# Altium footprint library PcbLib1.PcbLib: 41 footprints (part 1 of 3)
Each footprint in its own frame and in the unit in brackets; x right, y up, seen from the top. Pads: shape width x height; smd on the part's side, far side on the other; paste and mask are expansions set on the pad; w line width, h text height; cw(c..) or ccw(c..) is an arc to the next point about the centre after c.
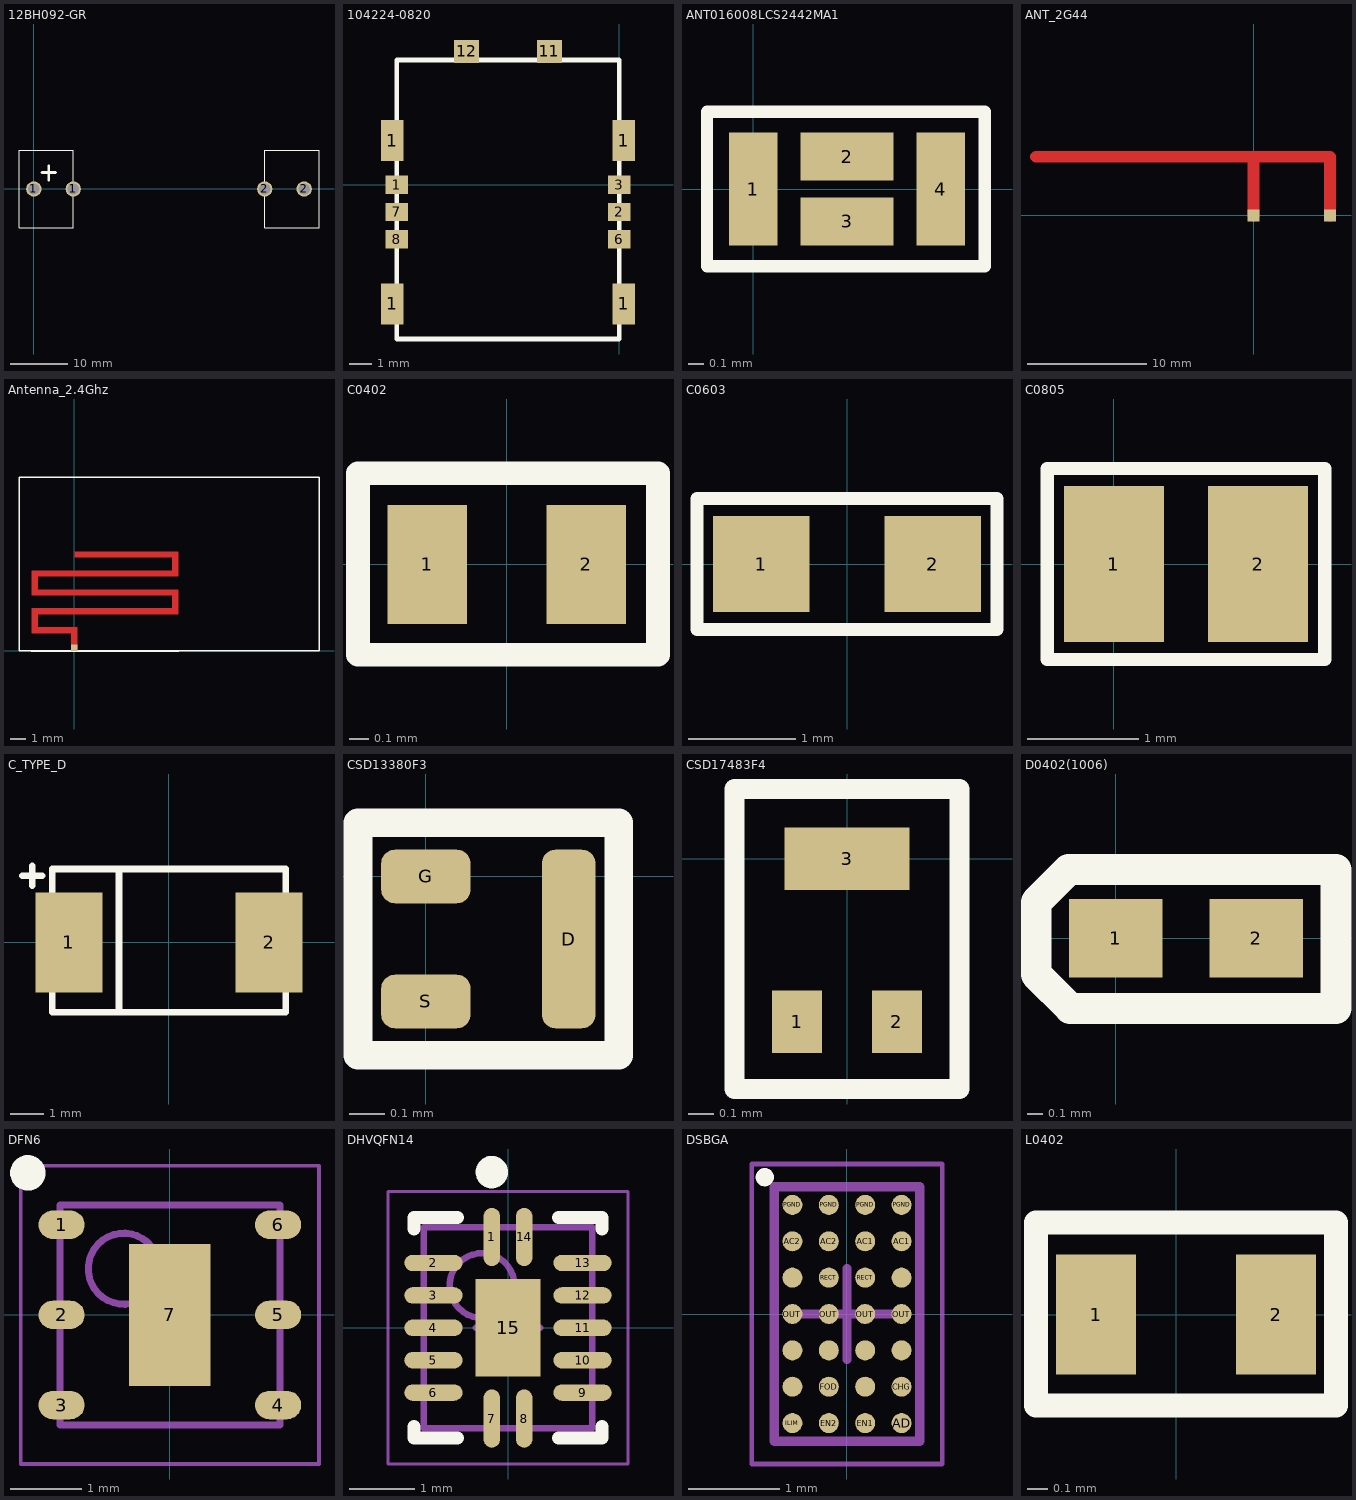
[diagram p0: the footprints below, top view; thin cyan lines are the x and y axes]

## 12BH092-GR [mm]
pads (4):
  round 2.7 hole 2: 1(0,0) 1(6.9,0) 2(40.4,0) 2(47.3,0)
Top Overlay:
  lines w0.2: -2.6,-6.8 6.9,-6.8 6.9,6.8 -2.6,6.8 -2.6,-6.8 ; 40.4,-6.8 40.4,6.8 49.9,6.8 49.9,-6.8 40.4,-6.8
  lines w0.5: 1.4,2.9 3.8,2.9 ; 2.6,1.6 2.6,4

## 104224-0820 [mm]
pads (12):
  rect 1x1.8 smd: 1(-10,-5.25) 1(-10,1.95) 1(0.2,-5.25) 1(0.2,1.95)
  rect 1x0.8 smd: 1(-9.8,0) 2(0,-1.2) 3(0,0) 6(0,-2.4) 7(-9.8,-1.2) 8(-9.8,-2.4)
  rect 1.1x1 smd: 11(-3.08,5.875) 12(-6.72,5.875)
Top Overlay:
  lines w0.2: -9.8,-6.8 -9.8,5.5 0,5.5 0,-6.8 -9.8,-6.8

## ANT016008LCS2442MA1 [mm]
pads (4):
  rect 0.315x0.73 smd: 1(0,0) 4(1.215,0)
  rect 0.6x0.31 smd: 2(0.607,0.21) 3(0.607,-0.21)
Top Overlay:
  lines w0.08: -0.3,-0.5 -0.3,0.5 1.5,0.5 1.5,-0.5 -0.3,-0.5

## ANT_2G44 [mm]
pads (2):
  rect 1x1 smd: ANT(0,0) GND(6.4,0)
Top Layer:
  lines w1: -18.2,4.9 0,4.9 ; 0,0 0,4.9 ; 6.4,0 6.4,4.9 0,4.9

## Antenna_2.4Ghz [mm]
pads (1):
  rect 0.4x0.4 smd: 1(0,0.2)
Top Layer:
  rectangle: -0.2,1.1 0.2,1.5
  rectangle: -2.7,1.1 -2.3,1.5
  rectangle: -2.7,2.3 -2.3,2.7
  rectangle: 6.2,2.3 6.6,2.7
  rectangle: 6.2,3.5 6.6,3.9
  rectangle: -2.7,3.5 -2.3,3.9
  rectangle: -2.7,4.7 -2.3,5.1
  rectangle: 6.2,4.7 6.6,5.1
  rectangle: 6.2,5.9 6.6,6.3
  rectangle: 0,5.9 0.4,6.3
  lines w0.4: 0,0.2 0,1.3 -2.5,1.3 -2.5,2.5 6.4,2.5 6.4,3.7 -2.5,3.7 -2.5,4.9 6.4,4.9 6.4,6.1 0.2,6.1
Top Overlay:
  lines w0.08: -2.7,0 -3.5,0 -3.5,11 15.5,11 15.5,0 6.6,0
  lines w0.12: -2.7,0 6.6,0

## C0402 [mm]
pads (2):
  rect 0.4x0.6 smd: 1(-0.4,0) 2(0.4,0)
Top Overlay:
  lines w0.12: -0.749,-0.454 0.76,-0.454 0.76,0.459 -0.749,0.459 -0.749,-0.454

## C0603 [mm]
pads (2):
  rect 0.9x0.9 smd: 1(-0.8,0) 2(0.8,0)
Top Overlay:
  lines w0.12: -1.4,-0.61 1.4,-0.61 1.4,0.61 -1.4,0.61 -1.4,-0.61

## C0805 [mm]
pads (2):
  rect 0.9x1.4 smd: 1(0,0) 2(1.3,0)
Top Overlay:
  lines w0.12: -0.6,-0.86 -0.6,0.86 1.9,0.86 1.9,-0.86 -0.6,-0.86

## C_TYPE_D [mm]
pads (2):
  rect 2x3 smd: 1(-3,0) 2(3,0)
Top Overlay:
  lines w0.2: -4.4,2 -3.8,2 ; -4.1,1.7 -4.1,2.3 ; -1.6,2.2 -1.5,2.2 -1.5,-2 ; -3.5,-2.1 3.5,-2.1 3.5,2.2 -3.5,2.2 -3.5,-2.1

## CSD13380F3 [mm]
pads (3):
  rrect50% 0.15x0.5 smd: D(0.4,-0.175)
  rrect50% 0.25x0.15 smd: G(0,0) S(0,-0.35)
Top Overlay:
  lines w0.08: -0.19,-0.5 0.54,-0.5 0.54,0.15 -0.19,0.15 -0.19,-0.5

## CSD17483F4 [mm]
pads (3):
  rect 0.2x0.25 smd: 1(-0.2,-0.65) 2(0.2,-0.65)
  rect 0.5x0.25 smd: 3(0,0)
Top Overlay:
  lines w0.08: -0.45,-0.92 0.45,-0.92 0.45,0.28 -0.45,0.28 -0.45,-0.92

## D0402(1006) [mm]
pads (2):
  rect 0.6x0.5 smd: 1(0,0) 2(0.9,0)
Top Overlay:
  lines w0.2: -0.51,-0.23 -0.51,0.23 -0.3,0.44 1.41,0.44 1.41,-0.45 -0.29,-0.45 -0.51,-0.23

## DFN6 [mm]
height 1
pads (7):
  oval 0.65x0.4 smd: 1(-1.525,1.27) 2(-1.525,0) 3(-1.525,-1.27) 4(1.525,-1.27) 5(1.525,0) 6(1.525,1.27)
  rect 1.15x2 smd: 7(0,0)
Top Overlay:
  circle w0.25: c-2,2 r0.125
Mechanical 13:
  circle w0.1: c-0.65,0.65 r0.5
  lines w0.1: -1.55,-1.55 -1.55,1.55 1.55,1.55 1.55,-1.55 -1.55,-1.55
Mechanical 15:
  lines w0.05: -2.1,-2.1 -2.1,2.1 2.1,2.1 2.1,-2.1 -2.1,-2.1
  lines w0.1: -0.5,0 0.5,0 ; 0,-0.5 0,0.5
3D body: height 1, standoff 0.05, extent -1.55,-1.55 1.55,1.55

## DHVQFN14 [mm] "QFN, 14-Leads, Body 2,50x3,00mm, Pitch 0,50mm, Thermal Pad 1,00x1,50mm, IPC Medium Density"
height 1
pads (15):
  oval 0.25x0.9 smd: 1(-0.25,1.4) 7(-0.25,-1.4) 8(0.25,-1.4) 14(0.25,1.4)
  oval 0.9x0.25 smd: 2(-1.15,1) 3(-1.15,0.5) 4(-1.15,0) 5(-1.15,-0.5) 6(-1.15,-1) 9(1.15,-1) 10(1.15,-0.5) 11(1.15,0) 12(1.15,0.5) 13(1.15,1)
  rect 1x1.5 smd: 15(0,0)
Top Overlay:
  circle w0.25: c-0.25,2.4 r0.125
  lines w0.2: -1.45,-1.525 -1.45,-1.7 -0.775,-1.7 ; -1.45,1.525 -1.45,1.7 -0.775,1.7 ; 0.775,-1.7 1.45,-1.7 1.45,-1.525 ; 0.775,1.7 1.45,1.7 1.45,1.525
Mechanical 13:
  circle w0.1: c-0.4,0.65 r0.5
  lines w0.1: -1.3,-1.55 1.3,-1.55 1.3,1.55 -1.3,1.55 -1.3,-1.55
Mechanical 15:
  lines w0.05: -1.85,-2.1 1.85,-2.1 1.85,2.1 -1.85,2.1 -1.85,-2.1
  lines w0.1: -0.5,0 0.5,0 ; 0,-0.5 0,0.5
3D body: height 1, standoff 0.05, extent -1.3,-1.55 1.3,1.55

## DSBGA [mm] "DSBGA"
height 0.19
pads (28):
  round 0.22 smd: AC1(0.2,0.8) AC1(0.6,0.8) AC2(-0.6,0.8) AC2(-0.2,0.8) AD(0.6,-1.2) AD-EN(0.2,-0.8) BOOT1(0.6,0.4) BOOT2(-0.6,0.4) CHG(0.6,-0.8) CLAMP1(0.2,-0.4) CLAMP2(-0.2,-0.4) COMM1(0.6,-0.4) COMM2(-0.6,-0.4) EN1(0.2,-1.2) EN2(-0.2,-1.2) FOD(-0.2,-0.8) ILIM(-0.6,-1.2) OUT(-0.6,0) OUT(-0.2,0) OUT(0.2,0) OUT(0.6,0) PGND(-0.6,1.2) PGND(-0.2,1.2) PGND(0.2,1.2) PGND(0.6,1.2) RECT(-0.2,0.4) RECT(0.2,0.4) TS-CTRL(-0.6,-0.8)
Top Overlay:
  circle w0.1: c-0.905,1.505 r0.05
Mechanical 13:
  lines w0.1: -0.8,-1.4 0.8,-1.4 0.8,1.4 -0.8,1.4 -0.8,-1.4
Mechanical 15:
  lines w0.05: -1.05,-1.65 1.05,-1.65 1.05,1.65 -1.05,1.65 -1.05,-1.65
  lines w0.1: -0.5,0 0.5,0 ; 0,-0.5 0,0.5
3D body: height 0.3, standoff 0.19, extent -0.8,-1.4 0.8,1.4

## L0402 [mm]
pads (2):
  rect 0.4x0.6 smd: 1(-0.4,0) 2(0.5,0)
Top Overlay:
  lines w0.12: -0.7,-0.454 -0.7,0.459 0.8,0.459 0.8,-0.454 -0.7,-0.454